# EAGLE library part UTR-C12-M (library UDEA_HAKKI)
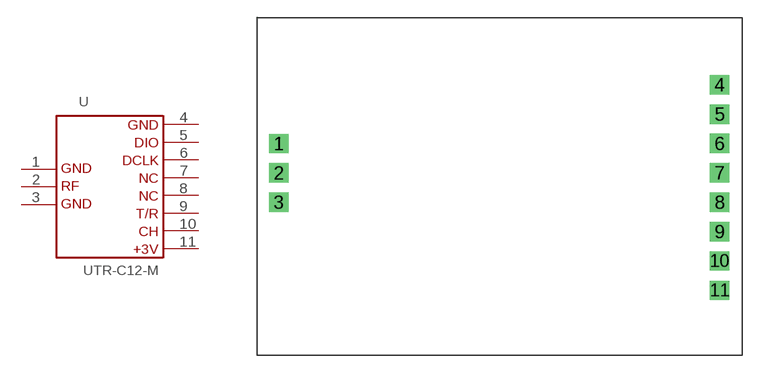
[diagram p0: symbol with the pads of UTR-C12-M; footprint UTR-C12-M]

Designator prefix -

## UTR-C12-M  [UTR-C12-M]
1  1
2  2
3  3
4  4
5  5
6  6
7  7
8  8
9  9
10  10
11  11

## Footprint UTR-C12-M (pad centres in mm)
drill 1.016 pad 1.676 square: 1 -17.188,4.333; 2 -17.188,1.796; 3 -17.188,-0.739; 4 20.912,9.421; 5 20.912,6.878; 6 20.912,4.341; 7 20.912,1.801; 8 20.912,-0.742; 9 20.912,-3.282; 10 20.912,-5.817; 11 20.916,-8.358